# Altium schematic symbol library Resistors.SchLib: 196 symbols (part 2 of 2)
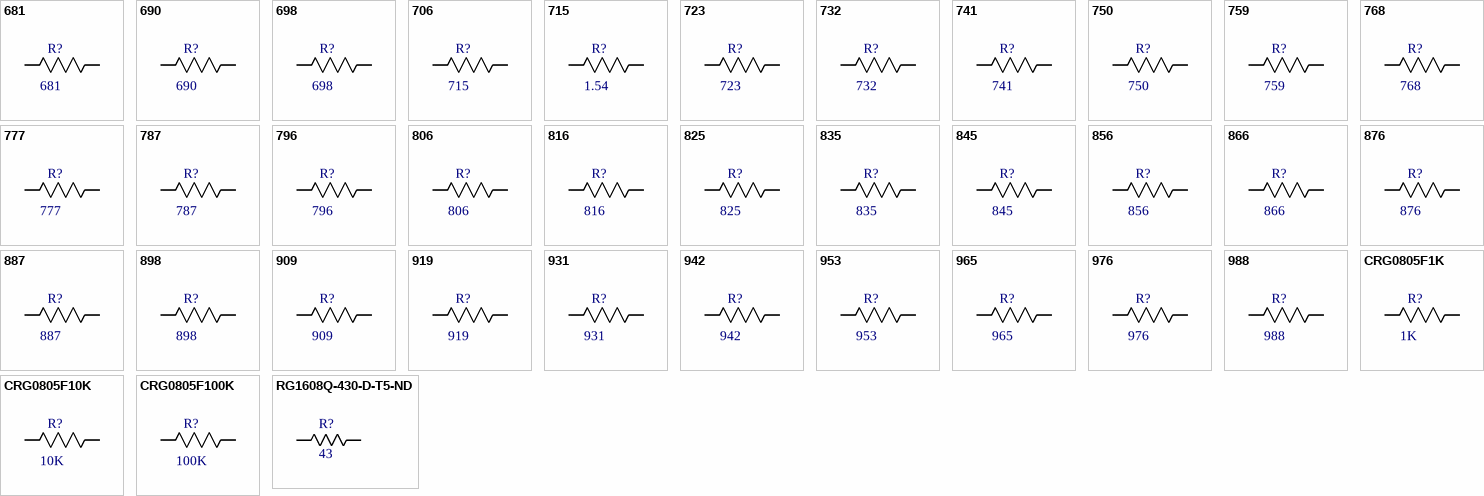
[diagram p5: symbols 681 to RG1608Q-430-D-T5-ND]

## 715
designator R?, comment value 1.54  (hidden comment: 10)
Thick   Film   ChipResistors; Manufacturer_Part_Number: CRG0805F100K; Vendor: TE Connectivity; Built_By: EMA_UL_Team; SourceLibrary: Tyco_2012-01-31a; Tollerance: 1%; Power: 0.125W; RefDes: RefDes
footprint RES0805_CRG_TYCO_TYC
pins: 1, 2

## 723
designator R?, comment value 723  (hidden comment: 10)
Thick   Film   ChipResistors; Manufacturer_Part_Number: CRG0805F100K; Vendor: TE Connectivity; Built_By: EMA_UL_Team; SourceLibrary: Tyco_2012-01-31a; Tollerance: 1%; Power: 0.125W; RefDes: RefDes
footprint RES0805_CRG_TYCO_TYC
pins: 1, 2

## 732
designator R?, comment value 732  (hidden comment: 10)
Thick   Film   ChipResistors; Manufacturer_Part_Number: CRG0805F100K; Vendor: TE Connectivity; Built_By: EMA_UL_Team; SourceLibrary: Tyco_2012-01-31a; Tollerance: 1%; Power: 0.125W; RefDes: RefDes
footprint RES0805_CRG_TYCO_TYC
pins: 1, 2

## 741
designator R?, comment value 741  (hidden comment: 10)
Thick   Film   ChipResistors; Manufacturer_Part_Number: CRG0805F100K; Vendor: TE Connectivity; Built_By: EMA_UL_Team; SourceLibrary: Tyco_2012-01-31a; Tollerance: 1%; Power: 0.125W; RefDes: RefDes
footprint RES0805_CRG_TYCO_TYC
pins: 1, 2

## 750
designator R?, comment value 750  (hidden comment: 10)
Thick   Film   ChipResistors; Manufacturer_Part_Number: CRG0805F100K; Vendor: TE Connectivity; Built_By: EMA_UL_Team; SourceLibrary: Tyco_2012-01-31a; Tollerance: 1%; Power: 0.125W; RefDes: RefDes
footprint RES0805_CRG_TYCO_TYC
pins: 1, 2

## 759
designator R?, comment value 759  (hidden comment: 10)
Thick   Film   ChipResistors; Manufacturer_Part_Number: CRG0805F100K; Vendor: TE Connectivity; Built_By: EMA_UL_Team; SourceLibrary: Tyco_2012-01-31a; Tollerance: 1%; Power: 0.125W; RefDes: RefDes
footprint RES0805_CRG_TYCO_TYC
pins: 1, 2

## 768
designator R?, comment value 768  (hidden comment: 10)
Thick   Film   ChipResistors; Manufacturer_Part_Number: CRG0805F100K; Vendor: TE Connectivity; Built_By: EMA_UL_Team; SourceLibrary: Tyco_2012-01-31a; Tollerance: 1%; Power: 0.125W; RefDes: RefDes
footprint RES0805_CRG_TYCO_TYC
pins: 1, 2

## 777
designator R?, comment value 777  (hidden comment: 10)
Thick   Film   ChipResistors; Manufacturer_Part_Number: CRG0805F100K; Vendor: TE Connectivity; Built_By: EMA_UL_Team; SourceLibrary: Tyco_2012-01-31a; Tollerance: 1%; Power: 0.125W; RefDes: RefDes
footprint RES0805_CRG_TYCO_TYC
pins: 1, 2

## 787
designator R?, comment value 787  (hidden comment: 10)
Thick   Film   ChipResistors; Manufacturer_Part_Number: CRG0805F100K; Vendor: TE Connectivity; Built_By: EMA_UL_Team; SourceLibrary: Tyco_2012-01-31a; Tollerance: 1%; Power: 0.125W; RefDes: RefDes
footprint RES0805_CRG_TYCO_TYC
pins: 1, 2

## 796
designator R?, comment value 796  (hidden comment: 10)
Thick   Film   ChipResistors; Manufacturer_Part_Number: CRG0805F100K; Vendor: TE Connectivity; Built_By: EMA_UL_Team; SourceLibrary: Tyco_2012-01-31a; Tollerance: 1%; Power: 0.125W; RefDes: RefDes
footprint RES0805_CRG_TYCO_TYC
pins: 1, 2

## 806
designator R?, comment value 806  (hidden comment: 10)
Thick   Film   ChipResistors; Manufacturer_Part_Number: CRG0805F100K; Vendor: TE Connectivity; Built_By: EMA_UL_Team; SourceLibrary: Tyco_2012-01-31a; Tollerance: 1%; Power: 0.125W; RefDes: RefDes
footprint RES0805_CRG_TYCO_TYC
pins: 1, 2

## 816
designator R?, comment value 816  (hidden comment: 10)
Thick   Film   ChipResistors; Manufacturer_Part_Number: CRG0805F100K; Vendor: TE Connectivity; Built_By: EMA_UL_Team; SourceLibrary: Tyco_2012-01-31a; Tollerance: 1%; Power: 0.125W; RefDes: RefDes
footprint RES0805_CRG_TYCO_TYC
pins: 1, 2

## 825
designator R?, comment value 825  (hidden comment: 10)
Thick   Film   ChipResistors; Manufacturer_Part_Number: CRG0805F100K; Vendor: TE Connectivity; Built_By: EMA_UL_Team; SourceLibrary: Tyco_2012-01-31a; Tollerance: 1%; Power: 0.125W; RefDes: RefDes
footprint RES0805_CRG_TYCO_TYC
pins: 1, 2

## 835
designator R?, comment value 835  (hidden comment: 10)
Thick   Film   ChipResistors; Manufacturer_Part_Number: CRG0805F100K; Vendor: TE Connectivity; Built_By: EMA_UL_Team; SourceLibrary: Tyco_2012-01-31a; Tollerance: 1%; Power: 0.125W; RefDes: RefDes
footprint RES0805_CRG_TYCO_TYC
pins: 1, 2

## 845
designator R?, comment value 845  (hidden comment: 10)
Thick   Film   ChipResistors; Manufacturer_Part_Number: CRG0805F100K; Vendor: TE Connectivity; Built_By: EMA_UL_Team; SourceLibrary: Tyco_2012-01-31a; Tollerance: 1%; Power: 0.125W; RefDes: RefDes
footprint RES0805_CRG_TYCO_TYC
pins: 1, 2

## 856
designator R?, comment value 856  (hidden comment: 10)
Thick   Film   ChipResistors; Manufacturer_Part_Number: CRG0805F100K; Vendor: TE Connectivity; Built_By: EMA_UL_Team; SourceLibrary: Tyco_2012-01-31a; Tollerance: 1%; Power: 0.125W; RefDes: RefDes
footprint RES0805_CRG_TYCO_TYC
pins: 1, 2

## 866
designator R?, comment value 866  (hidden comment: 10)
Thick   Film   ChipResistors; Manufacturer_Part_Number: CRG0805F100K; Vendor: TE Connectivity; Built_By: EMA_UL_Team; SourceLibrary: Tyco_2012-01-31a; Tollerance: 1%; Power: 0.125W; RefDes: RefDes
footprint RES0805_CRG_TYCO_TYC
pins: 1, 2

## 876
designator R?, comment value 876  (hidden comment: 10)
Thick   Film   ChipResistors; Manufacturer_Part_Number: CRG0805F100K; Vendor: TE Connectivity; Built_By: EMA_UL_Team; SourceLibrary: Tyco_2012-01-31a; Tollerance: 1%; Power: 0.125W; RefDes: RefDes
footprint RES0805_CRG_TYCO_TYC
pins: 1, 2

## 887
designator R?, comment value 887  (hidden comment: 10)
Thick   Film   ChipResistors; Manufacturer_Part_Number: CRG0805F100K; Vendor: TE Connectivity; Built_By: EMA_UL_Team; SourceLibrary: Tyco_2012-01-31a; Tollerance: 1%; Power: 0.125W; RefDes: RefDes
footprint RES0805_CRG_TYCO_TYC
pins: 1, 2

## 898
designator R?, comment value 898  (hidden comment: 10)
Thick   Film   ChipResistors; Manufacturer_Part_Number: CRG0805F100K; Vendor: TE Connectivity; Built_By: EMA_UL_Team; SourceLibrary: Tyco_2012-01-31a; Tollerance: 1%; Power: 0.125W; RefDes: RefDes
footprint RES0805_CRG_TYCO_TYC
pins: 1, 2

## 909
designator R?, comment value 909  (hidden comment: 10)
Thick   Film   ChipResistors; Manufacturer_Part_Number: CRG0805F100K; Vendor: TE Connectivity; Built_By: EMA_UL_Team; SourceLibrary: Tyco_2012-01-31a; Tollerance: 1%; Power: 0.125W; RefDes: RefDes
footprint RES0805_CRG_TYCO_TYC
pins: 1, 2

## 919
designator R?, comment value 919  (hidden comment: 10)
Thick   Film   ChipResistors; Manufacturer_Part_Number: CRG0805F100K; Vendor: TE Connectivity; Built_By: EMA_UL_Team; SourceLibrary: Tyco_2012-01-31a; Tollerance: 1%; Power: 0.125W; RefDes: RefDes
footprint RES0805_CRG_TYCO_TYC
pins: 1, 2

## 931
designator R?, comment value 931  (hidden comment: 10)
Thick   Film   ChipResistors; Manufacturer_Part_Number: CRG0805F100K; Vendor: TE Connectivity; Built_By: EMA_UL_Team; SourceLibrary: Tyco_2012-01-31a; Tollerance: 1%; Power: 0.125W; RefDes: RefDes
footprint RES0805_CRG_TYCO_TYC
pins: 1, 2

## 942
designator R?, comment value 942  (hidden comment: 10)
Thick   Film   ChipResistors; Manufacturer_Part_Number: CRG0805F100K; Vendor: TE Connectivity; Built_By: EMA_UL_Team; SourceLibrary: Tyco_2012-01-31a; Tollerance: 1%; Power: 0.125W; RefDes: RefDes
footprint RES0805_CRG_TYCO_TYC
pins: 1, 2

## 953
designator R?, comment value 953  (hidden comment: 10)
Thick   Film   ChipResistors; Manufacturer_Part_Number: CRG0805F100K; Vendor: TE Connectivity; Built_By: EMA_UL_Team; SourceLibrary: Tyco_2012-01-31a; Tollerance: 1%; Power: 0.125W; RefDes: RefDes
footprint RES0805_CRG_TYCO_TYC
pins: 1, 2

## 965
designator R?, comment value 965  (hidden comment: 10)
Thick   Film   ChipResistors; Manufacturer_Part_Number: CRG0805F100K; Vendor: TE Connectivity; Built_By: EMA_UL_Team; SourceLibrary: Tyco_2012-01-31a; Tollerance: 1%; Power: 0.125W; RefDes: RefDes
footprint RES0805_CRG_TYCO_TYC
pins: 1, 2

## 976
designator R?, comment value 976  (hidden comment: 10)
Thick   Film   ChipResistors; Manufacturer_Part_Number: CRG0805F100K; Vendor: TE Connectivity; Built_By: EMA_UL_Team; SourceLibrary: Tyco_2012-01-31a; Tollerance: 1%; Power: 0.125W; RefDes: RefDes
footprint RES0805_CRG_TYCO_TYC
pins: 1, 2

## 988
designator R?, comment value 988  (hidden comment: 10)
Thick   Film   ChipResistors; Manufacturer_Part_Number: CRG0805F100K; Vendor: TE Connectivity; Built_By: EMA_UL_Team; SourceLibrary: Tyco_2012-01-31a; Tollerance: 1%; Power: 0.125W; RefDes: RefDes
footprint RES0805_CRG_TYCO_TYC
pins: 1, 2

## CRG0805F1K
designator R?  value 1K  (hidden comment: CRG0805F1K)
No Description Available; Manufacturer_Part_Number: CRG0805F100K; Vendor: TE Connectivity; Built_By: EMA_UL_Team; SourceLibrary: Tyco_2012-01-31a; Tollerance: 1%; Power: 0.125W; RefDes: RefDes
footprint RES0805_CRG_TYCO_TYC
pins: 1, 2

## CRG0805F10K
designator R?  value 10K  (hidden comment: CRG0805F10K)
No Description Available; Manufacturer_Part_Number: CRG0805F100K; Vendor: TE Connectivity; Built_By: EMA_UL_Team; SourceLibrary: Tyco_2012-01-31a; Tollerance: 1%; Power: 0.125W; RefDes: RefDes
footprint RES0805_CRG_TYCO_TYC
pins: 1, 2

## CRG0805F100K
designator R?  value 100K  (hidden comment: CRG0805F100K)
No Description Available; Vendor: TE Connectivity; Built_By: EMA_UL_Team; SourceLibrary: Tyco_2012-01-31a; Tollerance: 1%; Power: 0.125W; Manufacturer_Part_Number: CRG0805F100K; RefDes: RefDes
footprint RES0805_CRG_TYCO_TYC
pins: 1, 2

## RG1608Q-430-D-T5-ND
designator R?, comment 43
RES SMD 43 OHM 0.5% 1/10W 0603; Manufacturer_Part_Number: RG1608P-203-D-T5; Vendor: Susumu; Built_By: EMA_UL_Team; SourceLibrary: Susumu_2015_05_08; Copyright: Copyright (C) 2018 Accelerated Designs. All rights reserved; RefDes: RefDes; Type: DEV; footprint Type: 0603
footprint RES0805_CRG_TYCO_TYC
footprint RES_0816_SUS(My_MAXI)
pins: 1, 2